# EAGLE library part MEGAWING_COMPACT (library Papilio)
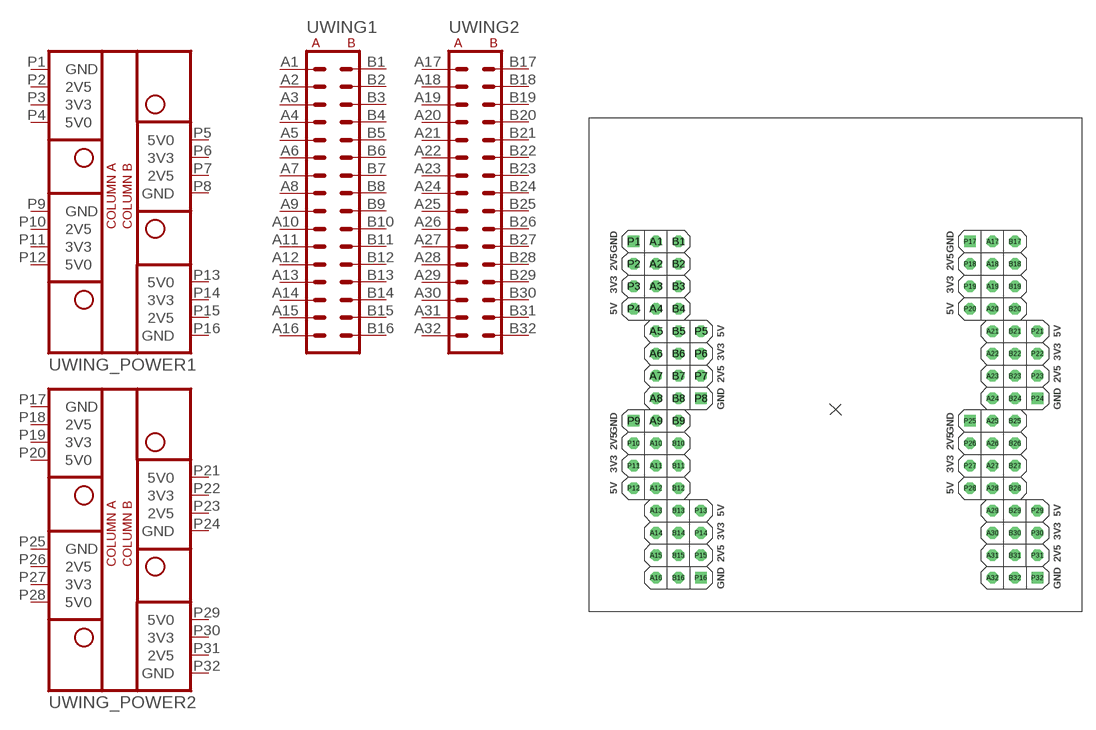
[diagram p1: symbol with the pads of MEGAWING_COMPACT_NOHOLES; footprint MEGAWING_COMPACT_NOHOLES]

Designator prefix -; gates WING1=WING32_IO WING2=WING32_IO WING_POWER1=WING32_POWER WING_POWER2=WING32_POWER

## MEGAWING_COMPACT  [MEGAWING_COMPACT_NOHOLES]
A1  WING1:A1
A2  WING1:A2
A3  WING1:A3
A4  WING1:A4
A5  WING1:A5
A6  WING1:A6
A7  WING1:A7
A8  WING1:A8
A9  WING1:A9
A10  WING1:A10
A11  WING1:A11
A12  WING1:A12
A13  WING1:A13
A14  WING1:A14
A15  WING1:A15
A16  WING1:A16
A17  WING2:A1
A18  WING2:A2
A19  WING2:A3
A20  WING2:A4
A21  WING2:A5
A22  WING2:A6
A23  WING2:A7
A24  WING2:A8
A25  WING2:A9
A26  WING2:A10
A27  WING2:A11
A28  WING2:A12
A29  WING2:A13
A30  WING2:A14
A31  WING2:A15
A32  WING2:A16
B1  WING1:B1
B2  WING1:B2
B3  WING1:B3
B4  WING1:B4
B5  WING1:B5
B6  WING1:B6
B7  WING1:B7
B8  WING1:B8
B9  WING1:B9
B10  WING1:B10
B11  WING1:B11
B12  WING1:B12
B13  WING1:B13
B14  WING1:B14
B15  WING1:B15
B16  WING1:B16
B17  WING2:B1
B18  WING2:B2
B19  WING2:B3
B20  WING2:B4
B21  WING2:B5
B22  WING2:B6
B23  WING2:B7
B24  WING2:B8
B25  WING2:B9
B26  WING2:B10
B27  WING2:B11
B28  WING2:B12
B29  WING2:B13
B30  WING2:B14
B31  WING2:B15
B32  WING2:B16
P1  WING_POWER1:GND  pwr
P2  WING_POWER1:2V5  pas
P3  WING_POWER1:3V3  pas
P4  WING_POWER1:5V0  pas
P5  WING_POWER1:5V0  pas
P6  WING_POWER1:3V3  pas
P7  WING_POWER1:2V5  pas
P8  WING_POWER1:GND  pwr
P9  WING_POWER1:GND  pwr
P10  WING_POWER1:2V5  pas
P11  WING_POWER1:3V3  pas
P12  WING_POWER1:5V0  pas
P13  WING_POWER1:5V0  pas
P14  WING_POWER1:3V3  pas
P15  WING_POWER1:2V5  pas
P16  WING_POWER1:GND  pwr
P17  WING_POWER2:GND  pwr
P18  WING_POWER2:2V5  pas
P19  WING_POWER2:3V3  pas
P20  WING_POWER2:5V0  pas
P21  WING_POWER2:5V0  pas
P22  WING_POWER2:3V3  pas
P23  WING_POWER2:2V5  pas
P24  WING_POWER2:GND  pwr
P25  WING_POWER2:GND  pwr
P26  WING_POWER2:2V5  pas
P27  WING_POWER2:3V3  pas
P28  WING_POWER2:5V0  pas
P29  WING_POWER2:5V0  pas
P30  WING_POWER2:3V3  pas
P31  WING_POWER2:2V5  pas
P32  WING_POWER2:GND  pwr

## Footprint MEGAWING_COMPACT_NOHOLES (pad centres in mm)
Use this footprint for compact papilio boards such as the Papilio RAM.
drill 0.8 octagon: A1 -20.32,19.05; A2 -20.32,16.51; A3 -20.32,13.97; A4 -20.32,11.43; A5 -20.32,8.89; A6 -20.32,6.35; A7 -20.32,3.81; A8 -20.32,1.27; A9 -20.32,-1.27; A10 -20.32,-3.81; A11 -20.32,-6.35; A12 -20.32,-8.89; A13 -20.32,-11.43; A14 -20.32,-13.97; A15 -20.32,-16.51; A16 -20.32,-19.05; A17 17.78,19.05; A18 17.78,16.51; A19 17.78,13.97; A20 17.78,11.43; A21 17.78,8.89; A22 17.78,6.35; A23 17.78,3.81; A24 17.78,1.27; A25 17.78,-1.27; A26 17.78,-3.81; A27 17.78,-6.35; A28 17.78,-8.89; A29 17.78,-11.43; A30 17.78,-13.97; A31 17.78,-16.51; A32 17.78,-19.05; B1 -17.78,19.05; B2 -17.78,16.51; B3 -17.78,13.97; B4 -17.78,11.43; B5 -17.78,8.89; B6 -17.78,6.35; B7 -17.78,3.81; B8 -17.78,1.27; B9 -17.78,-1.27; B10 -17.78,-3.81; B11 -17.78,-6.35; B12 -17.78,-8.89; B13 -17.78,-11.43; B14 -17.78,-13.97; B15 -17.78,-16.51; B16 -17.78,-19.05; B17 20.32,19.05; B18 20.32,16.51; B19 20.32,13.97; B20 20.32,11.43; B21 20.32,8.89; B22 20.32,6.35; B23 20.32,3.81; B24 20.32,1.27; B25 20.32,-1.27; B26 20.32,-3.81; B27 20.32,-6.35; B28 20.32,-8.89; B29 20.32,-11.43; B30 20.32,-13.97; B31 20.32,-16.51; B32 20.32,-19.05; P2 -22.86,16.51; P3 -22.86,13.97; P4 -22.86,11.43; P5 -15.24,8.89; P6 -15.24,6.35; P7 -15.24,3.81; P10 -22.86,-3.81; P11 -22.86,-6.35; P12 -22.86,-8.89; P13 -15.24,-11.43; P14 -15.24,-13.97; P15 -15.24,-16.51; P18 15.24,16.51; P19 15.24,13.97; P20 15.24,11.43; P21 22.86,8.89; P22 22.86,6.35; P23 22.86,3.81; P26 15.24,-3.81; P27 15.24,-6.35; P28 15.24,-8.89; P29 22.86,-11.43; P30 22.86,-13.97; P31 22.86,-16.51
drill 0.8 square: P1 -22.86,19.05; P8 -15.24,1.27; P9 -22.86,-1.27; P16 -15.24,-19.05; P17 15.24,19.05; P24 22.86,1.27; P25 15.24,-1.27; P32 22.86,-19.05